# Altium footprint library Relay.PcbLib: 4 footprints
Each footprint in its own frame and in the unit in brackets; x right, y up, seen from the top. Pads: shape width x height; smd on the part's side, far side on the other; paste and mask are expansions set on the pad; w line width, h text height; cw(c..) or ccw(c..) is an arc to the next point about the centre after c.
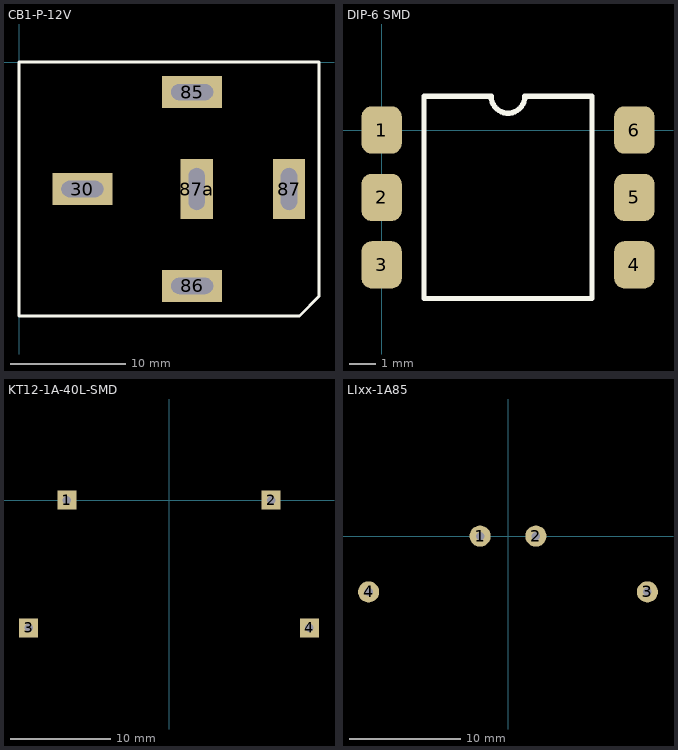
[diagram p0: the footprints below, top view; thin cyan lines are the x and y axes]

## CB1-P-12V [mm] "Panasonic SPDT Power Relay, contact 40A @14V, coil 12VDC"
pads (5):
  rect 5.2x2.8 hole 1.4 slot 3.65 at 0 deg: 30(5.5,-11) 85(15,-2.6) 86(15,-19.4)
  rect 2.8x5.2 hole 1.4 slot 3.65 at 90 deg: 87(23.4,-11) 87a(15.4,-11)
Top Overlay:
  lines w0.254: 0,-22 24.3,-22 26,-20.3 26,0 0,0 0,-22
3D body: height 25, standoff 1, extent 0,-22.098 26.035,0

## DIP-6 SMD [mm]
pads (6):
  rrect50% 1.52x1.78 smd: 1(0,0) 2(0,-2.54) 3(0,-5.08) 4(9.525,-5.08) 5(9.525,-2.54) 6(9.525,0)
Top Overlay:
  lines w0.2: 1.595,-6.35 7.93,-6.35 7.93,1.27 5.397,1.27 cw(c4.763,1.27) 4.127,1.27 1.595,1.27 1.595,-6.35

## KT12-1A-40L-SMD [mm] "KT Series Reed Relay"
pads (4):
  rect 1.9x1.9 hole 0.85: 1(-10.15,0) 2(10.15,0) 3(-13.97,-12.7) 4(13.97,-12.7)

## LIxx-1A85 [mm] "LI Series Reed Relay"
height 10.4
pads (4):
  round 1.9 hole 0.75: 1(-2.5,0) 2(2.5,0) 3(12.5,-5) 4(-12.5,-5)
3D body: height 10.4, standoff 0, extent -14.732,-7.62 14.732,2.54